# EAGLE library part ADSP-21479CZ (library analog-devices-dsp)
DSP SHARC 266MHZ LP 196CSPBGA
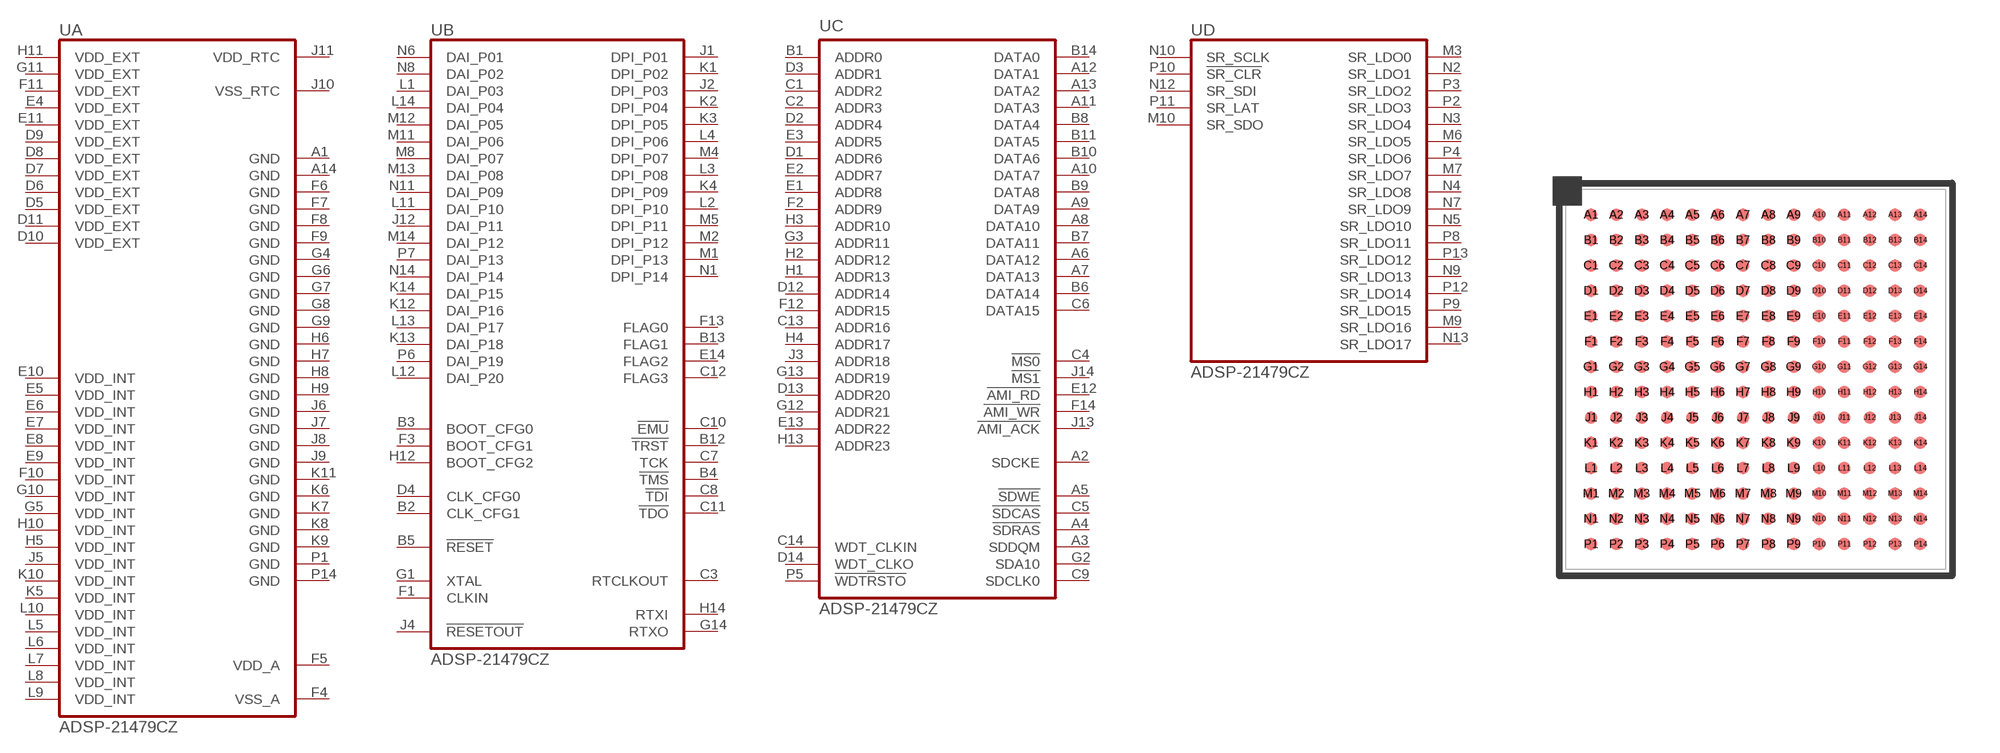
[diagram p0: symbol with the pads of LFBGA196; footprint LFBGA196]

Designator prefix U; gates C=ADSP-21479CZ-EXT D=ADSP-21479CZ-SR A=ADSP-21479CZ-PWR B=ADSP-21479CZ-SHIFT

## ADSP-21479CZ  [LFBGA196]
A1  A:GND  pwr
A2  C:SDCKE  out
A3  C:SDDQM
A4  C:!SDRAS!  out
A5  C:!SDWE!  out
A6  C:DATA12
A7  C:DATA13
A8  C:DATA10
A9  C:DATA9
A10  C:DATA7
A11  C:DATA3
A12  C:DATA1
A13  C:DATA2
A14  A:GND  pwr
B1  C:ADDR0
B2  B:CLK_CFG1  in
B3  B:BOOT_CFG0  in
B4  B:!TMS!  in
B5  B:!RESET!  in
B6  C:DATA14
B7  C:DATA11
B8  C:DATA4
B9  C:DATA8
B10  C:DATA6
B11  C:DATA5
B12  B:!TRST!  in
B13  B:FLAG1
B14  C:DATA0
C1  C:ADDR2
C2  C:ADDR3
C3  B:RTCLKOUT  out
C4  C:!MS0!  out
C5  C:!SDCAS!  out
C6  C:DATA15
C7  B:TCK  in
C8  B:!TDI!  in
C9  C:SDCLK0
C10  B:!EMU!  out
C11  B:!TDO!  out
C12  B:FLAG3
C13  C:ADDR16
C14  C:WDT_CLKIN  in
D1  C:ADDR6
D2  C:ADDR4
D3  C:ADDR1
D4  B:CLK_CFG0  in
D5  A:VDD_EXT  pwr
D6  A:VDD_EXT  pwr
D7  A:VDD_EXT  pwr
D8  A:VDD_EXT  pwr
D9  A:VDD_EXT  pwr
D10  A:VDD_EXT  pwr
D11  A:VDD_EXT  pwr
D12  C:ADDR14
D13  C:ADDR20
D14  C:WDT_CLKO  out
E1  C:ADDR8
E2  C:ADDR7
E3  C:ADDR5
E4  A:VDD_EXT  pwr
E5  A:VDD_INT  pwr
E6  A:VDD_INT  pwr
E7  A:VDD_INT  pwr
E8  A:VDD_INT  pwr
E9  A:VDD_INT  pwr
E10  A:VDD_INT  pwr
E11  A:VDD_EXT  pwr
E12  C:!AMI_RD!  out
E13  C:ADDR22
E14  B:FLAG2
F1  B:CLKIN  in
F2  C:ADDR9
F3  B:BOOT_CFG1  in
F4  A:VSS_A  pwr
F5  A:VDD_A  pwr
F6  A:GND  pwr
F7  A:GND  pwr
F8  A:GND  pwr
F9  A:GND  pwr
F10  A:VDD_INT  pwr
F11  A:VDD_EXT  pwr
F12  C:ADDR15
F13  B:FLAG0
F14  C:!AMI_WR!  out
G1  B:XTAL  out
G2  C:SDA10  out
G3  C:ADDR11
G4  A:GND  pwr
G5  A:VDD_INT  pwr
G6  A:GND  pwr
G7  A:GND  pwr
G8  A:GND  pwr
G9  A:GND  pwr
G10  A:VDD_INT  pwr
G11  A:VDD_EXT  pwr
G12  C:ADDR21
G13  C:ADDR19
G14  B:RTXO  out
H1  C:ADDR13
H2  C:ADDR12
H3  C:ADDR10
H4  C:ADDR17
H5  A:VDD_INT  pwr
H6  A:GND  pwr
H7  A:GND  pwr
H8  A:GND  pwr
H9  A:GND  pwr
H10  A:VDD_INT  pwr
H11  A:VDD_EXT  pwr
H12  B:BOOT_CFG2  in
H13  C:ADDR23
H14  B:RTXI  in
J1  B:DPI_P01
J2  B:DPI_P03
J3  C:ADDR18
J4  B:!RESETOUT!
J5  A:VDD_INT  pwr
J6  A:GND  pwr
J7  A:GND  pwr
J8  A:GND  pwr
J9  A:GND  pwr
J10  A:VSS_RTC  pwr
J11  A:VDD_RTC  pwr
J12  B:DAI_P11
J13  C:!AMI_ACK!  in
J14  C:!MS1!  out
K1  B:DPI_P02
K2  B:DPI_P04
K3  B:DPI_P05
K4  B:DPI_P09
K5  A:VDD_INT  pwr
K6  A:GND  pwr
K7  A:GND  pwr
K8  A:GND  pwr
K9  A:GND  pwr
K10  A:VDD_INT  pwr
K11  A:GND  pwr
K12  B:DAI_P16
K13  B:DAI_P18
K14  B:DAI_P15
L1  B:DAI_P03
L2  B:DPI_P10
L3  B:DPI_P08
L4  B:DPI_P06
L5  A:VDD_INT  pwr
L6  A:VDD_INT  pwr
L7  A:VDD_INT  pwr
L8  A:VDD_INT  pwr
L9  A:VDD_INT  pwr
L10  A:VDD_INT  pwr
L11  B:DAI_P10
L12  B:DAI_P20
L13  B:DAI_P17
L14  B:DAI_P04
M1  B:DPI_P13
M2  B:DPI_P12
M3  D:SR_LDO0
M4  B:DPI_P07
M5  B:DPI_P11
M6  D:SR_LDO5
M7  D:SR_LDO7
M8  B:DAI_P07
M9  D:SR_LDO16
M10  D:SR_SDO
M11  B:DAI_P06
M12  B:DAI_P05
M13  B:DAI_P08
M14  B:DAI_P12
N1  B:DPI_P14
N2  D:SR_LDO1
N3  D:SR_LDO4
N4  D:SR_LDO8
N5  D:SR_LDO10
N6  B:DAI_P01
N7  D:SR_LDO9
N8  B:DAI_P02
N9  D:SR_LDO13
N10  D:SR_SCLK
N11  B:DAI_P09
N12  D:SR_SDI
N13  D:SR_LDO17
N14  B:DAI_P14
P1  A:GND  pwr
P2  D:SR_LDO3
P3  D:SR_LDO2
P4  D:SR_LDO6
P5  C:!WDTRSTO!
P6  B:DAI_P19
P7  B:DAI_P13
P8  D:SR_LDO11
P9  D:SR_LDO15
P10  D:!SR_CLR!
P11  D:SR_LAT
P12  D:SR_LDO14
P13  D:SR_LDO12
P14  A:GND  pwr

## Footprint LFBGA196 (pad centres in mm)
196-Ball Chip Scale Package Ball Grid Array [CSP_BGA] (BC-196-8) JEDEC MO-275-GGAB-1
smd 0.394 x 0.394: A1 -5.2,5.2; A2 -4.4,5.2; A3 -3.6,5.2; A4 -2.8,5.2; A5 -2,5.2; A6 -1.2,5.2; A7 -0.4,5.2; A8 0.4,5.2; A9 1.2,5.2; A10 2,5.2; A11 2.8,5.2; A12 3.6,5.2; A13 4.4,5.2; A14 5.2,5.2; B1 -5.2,4.4; B2 -4.4,4.4; B3 -3.6,4.4; B4 -2.8,4.4; B5 -2,4.4; B6 -1.2,4.4; B7 -0.4,4.4; B8 0.4,4.4; B9 1.2,4.4; B10 2,4.4; B11 2.8,4.4; B12 3.6,4.4; B13 4.4,4.4; B14 5.2,4.4; C1 -5.2,3.6; C2 -4.4,3.6; C3 -3.6,3.6; C4 -2.8,3.6; C5 -2,3.6; C6 -1.2,3.6; C7 -0.4,3.6; C8 0.4,3.6; C9 1.2,3.6; C10 2,3.6; C11 2.8,3.6; C12 3.6,3.6; C13 4.4,3.6; C14 5.2,3.6; D1 -5.2,2.8; D2 -4.4,2.8; D3 -3.6,2.8; D4 -2.8,2.8; D5 -2,2.8; D6 -1.2,2.8; D7 -0.4,2.8; D8 0.4,2.8; D9 1.2,2.8; D10 2,2.8; D11 2.8,2.8; D12 3.6,2.8; D13 4.4,2.8; D14 5.2,2.8; E1 -5.2,2; E2 -4.4,2; E3 -3.6,2; E4 -2.8,2; E5 -2,2; E6 -1.2,2; E7 -0.4,2; E8 0.4,2; E9 1.2,2; E10 2,2; E11 2.8,2; E12 3.6,2; E13 4.4,2; E14 5.2,2; F1 -5.2,1.2; F2 -4.4,1.2; F3 -3.6,1.2; F4 -2.8,1.2; F5 -2,1.2; F6 -1.2,1.2; F7 -0.4,1.2; F8 0.4,1.2; F9 1.2,1.2; F10 2,1.2; F11 2.8,1.2; F12 3.6,1.2; F13 4.4,1.2; F14 5.2,1.2; G1 -5.2,0.4; G2 -4.4,0.4; G3 -3.6,0.4; G4 -2.8,0.4; G5 -2,0.4; G6 -1.2,0.4; G7 -0.4,0.4; G8 0.4,0.4; G9 1.2,0.4; G10 2,0.4; G11 2.8,0.4; G12 3.6,0.4; G13 4.4,0.4; G14 5.2,0.4; H1 -5.2,-0.4; H2 -4.4,-0.4; H3 -3.6,-0.4; H4 -2.8,-0.4; H5 -2,-0.4; H6 -1.2,-0.4; H7 -0.4,-0.4; H8 0.4,-0.4; H9 1.2,-0.4; H10 2,-0.4; H11 2.8,-0.4; H12 3.6,-0.4; H13 4.4,-0.4; H14 5.2,-0.4; J1 -5.2,-1.2; J2 -4.4,-1.2; J3 -3.6,-1.2; J4 -2.8,-1.2; J5 -2,-1.2; J6 -1.2,-1.2; J7 -0.4,-1.2; J8 0.4,-1.2; J9 1.2,-1.2; J10 2,-1.2; J11 2.8,-1.2; J12 3.6,-1.2; J13 4.4,-1.2; J14 5.2,-1.2; K1 -5.2,-2; K2 -4.4,-2; K3 -3.6,-2; K4 -2.8,-2; K5 -2,-2; K6 -1.2,-2; K7 -0.4,-2; K8 0.4,-2; K9 1.2,-2; K10 2,-2; K11 2.8,-2; K12 3.6,-2; K13 4.4,-2; K14 5.2,-2; L1 -5.2,-2.8; L2 -4.4,-2.8; L3 -3.6,-2.8; L4 -2.8,-2.8; L5 -2,-2.8; L6 -1.2,-2.8; L7 -0.4,-2.8; L8 0.4,-2.8; L9 1.2,-2.8; L10 2,-2.8; L11 2.8,-2.8; L12 3.6,-2.8; L13 4.4,-2.8; L14 5.2,-2.8; M1 -5.2,-3.6; M2 -4.4,-3.6; M3 -3.6,-3.6; M4 -2.8,-3.6; M5 -2,-3.6; M6 -1.2,-3.6; M7 -0.4,-3.6; M8 0.4,-3.6; M9 1.2,-3.6; M10 2,-3.6; M11 2.8,-3.6; M12 3.6,-3.6; M13 4.4,-3.6; M14 5.2,-3.6; N1 -5.2,-4.4; N2 -4.4,-4.4; N3 -3.6,-4.4; N4 -2.8,-4.4; N5 -2,-4.4; N6 -1.2,-4.4; N7 -0.4,-4.4; N8 0.4,-4.4; N9 1.2,-4.4; N10 2,-4.4; N11 2.8,-4.4; N12 3.6,-4.4; N13 4.4,-4.4; N14 5.2,-4.4; P1 -5.2,-5.2; P2 -4.4,-5.2; P3 -3.6,-5.2; P4 -2.8,-5.2; P5 -2,-5.2; P6 -1.2,-5.2; P7 -0.4,-5.2; P8 0.4,-5.2; P9 1.2,-5.2; P10 2,-5.2; P11 2.8,-5.2; P12 3.6,-5.2; P13 4.4,-5.2; P14 5.2,-5.2